# EAGLE library part A3979 (library Oles komponentbibliotek)
DMOS Microstepping Driver with Translator
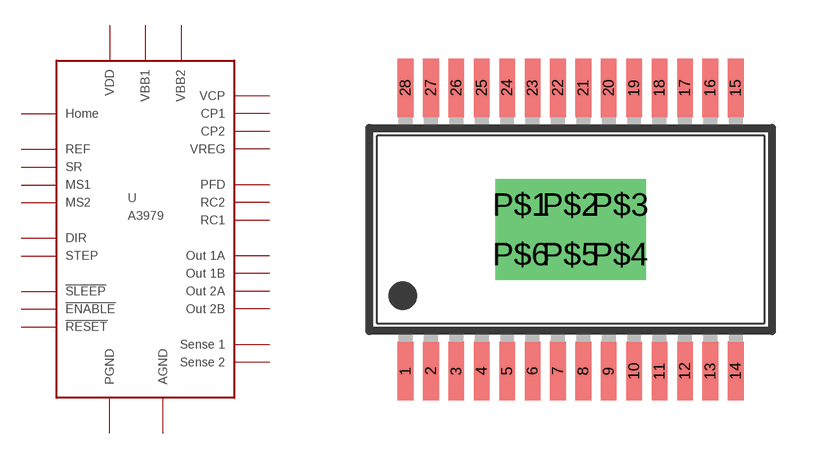
[diagram p17: symbol with the pads of TSSOP28-THERMAL; footprint TSSOP28-THERMAL]

Designator prefix -

## A3979  [TSSOP28-THERMAL]
1  SENSE1  in
2  HOME  out
3  DIR  in
4  OUT1A  out
5  RFD  pas
6  RC1  pas
7  AGND  pwr
8  REF  pwr
9  RC2  pas
10  VDD  pwr
11  OUT2A  out
12  MS2  in
13  MS1  in
14  SENSE2  in
15  VBB2  pwr
16  SR  in
17  !RESET  in
18  OUT2B  out
19  STEP  in
20  VREG  pas
21  PGND  pwr
22  VCP  pas
23  CP1  pas
24  CP2  pas
25  OUT1B  out
26  !ENABLE  in
27  !SLEEP  in
28  VBB1  pwr
P$1  PGND  pwr
P$2  PGND  pwr
P$3  PGND  pwr
P$4  PGND  pwr
P$5  PGND  pwr
P$6  PGND  pwr

## Footprint TSSOP28-THERMAL (pad centres in mm)
Shrink Small Outline Package package type SS
smd 0.4 x 1.5: 1 -4.225,-3.625; 2 -3.575,-3.625; 3 -2.925,-3.625; 4 -2.275,-3.625; 5 -1.625,-3.625; 6 -0.975,-3.625; 7 -0.325,-3.625; 8 0.325,-3.625; 9 0.975,-3.625; 10 1.625,-3.625; 11 2.275,-3.625; 12 2.925,-3.625; 13 3.575,-3.625; 14 4.225,-3.625; 15 4.225,3.625; 16 3.575,3.625; 17 2.925,3.625; 18 2.275,3.625; 19 1.625,3.625; 20 0.975,3.625; 21 0.325,3.625; 22 -0.325,3.625; 23 -0.975,3.625; 24 -1.625,3.625; 25 -2.275,3.625; 26 -2.925,3.625; 27 -3.575,3.625; 28 -4.225,3.625
drill 0.8 pad 1.27 square: P$1 -1.27,0.635; P$2 0,0.635; P$3 1.27,0.635; P$4 1.27,-0.635; P$5 0,-0.635; P$6 -1.27,-0.635